# Altium schematic symbol library CON6.Schlib: 1 symbol
Pins are listed as number, name and electrical type; pins without a type are passive.

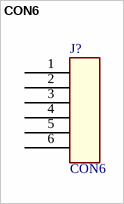
[diagram p0: symbol CON6]

## CON6
designator J?
pins: 1, 2, 3, 4, 5, 6